# Altium schematic symbol library Bidirection-Diode.SchLib: 1 symbol
Pins are listed as number, name and electrical type; pins without a type are passive.

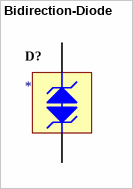
[diagram p0: symbol Bidirection-Diode]

## Bidirection-Diode
designator D?
pins: 1, 2